# Altium schematic symbol library 2019-09-20_18-37-07.SchLib: 2 symbols
Pins are listed as number, name and electrical type; pins without a type are passive.

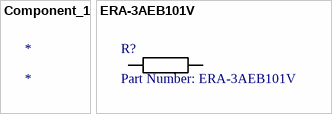
[diagram p0: symbols Component_1 to ERA-3AEB101V]

## Component_1
designator *

## ERA-3AEB101V
designator R?, comment Part Number: ERA-3AEB101V
No Description Available; Vendor: Panasonic; Built_By: EMA_UL_Team; Manufacturer_Part_Number: ERA-3AEB101V; Copyright: Copyright (C) 2018 Accelerated Designs. All rights reserved; RefDes: RefDes; Type: DEV; Value: Value
footprint RC0603N
pins: 1, 2